# EAGLE library part TPS2066DR (library TPS206x_Series)
Texas Instruments Power Distribution Switch Current-limited to ~1A Dual-Channel
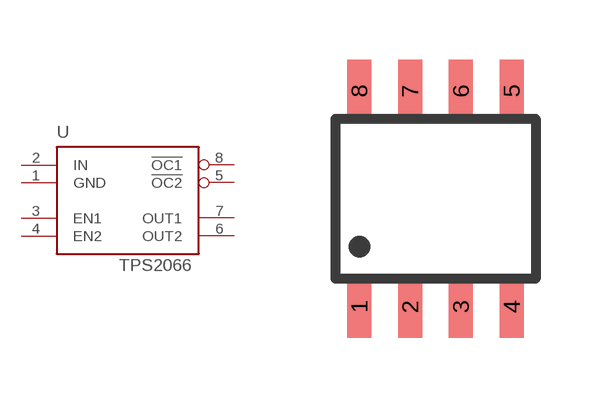
[diagram p0: symbol with the pads of SOIC-8; footprint SOIC-8]

Designator prefix -

## TPS2066DR  [SOIC-8]
1  GND  pwr
2  IN  pwr
3  EN1  in
4  EN2  in
5  !OC2  out
6  OUT2  out
7  OUT1  out
8  !OC1  out

## Footprint SOIC-8 (pad centres in mm)
smd 0.6 x 1.55: 1 -1.905,-2.7; 2 -0.635,-2.7; 3 0.635,-2.7; 4 1.905,-2.7; 5 1.905,2.7; 6 0.635,2.7; 7 -0.635,2.7; 8 -1.905,2.7